# Altium integrated library Texas Instruments Power Management PWM Controller.IntLib: 1227 symbols (part 36 of 49)
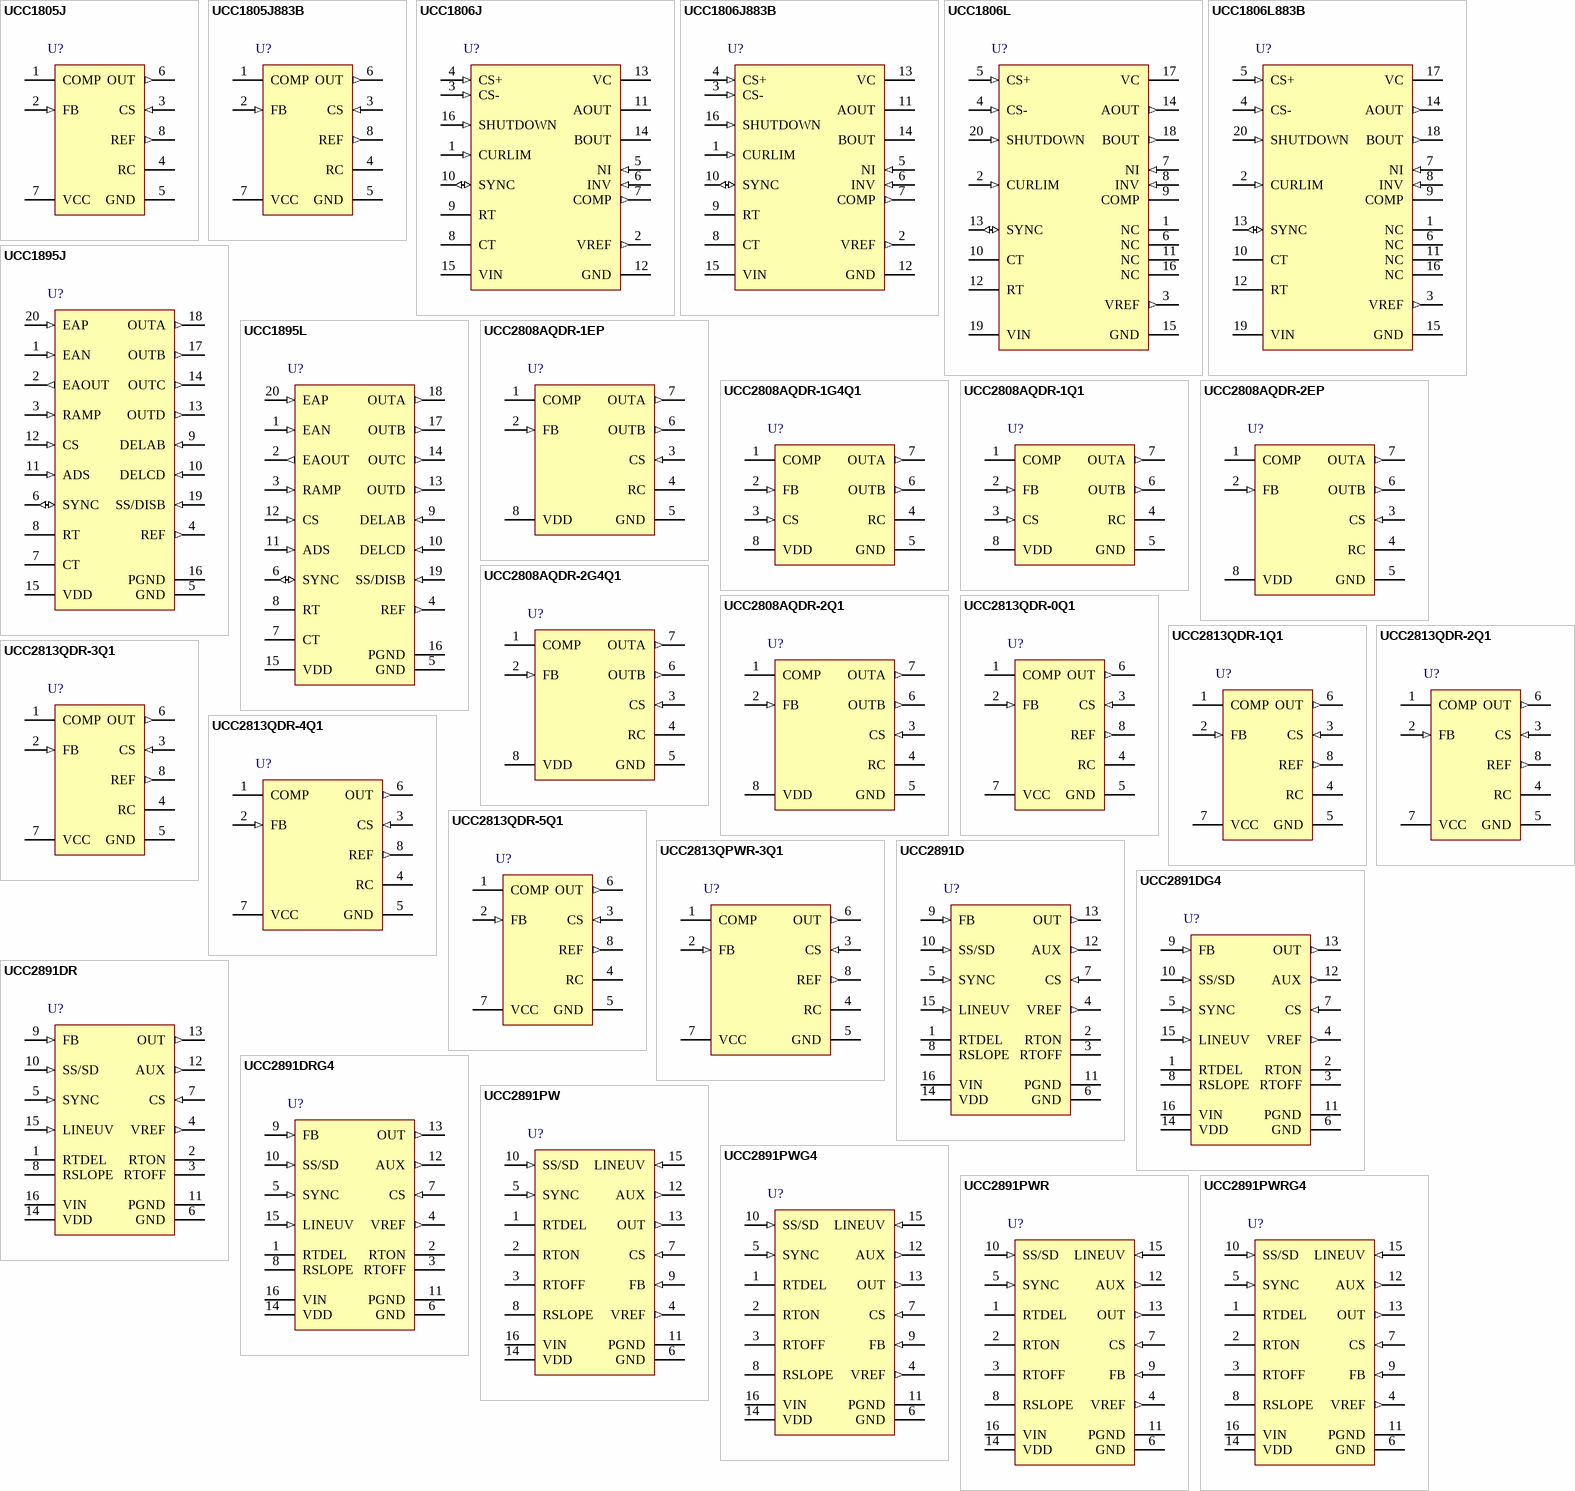
[diagram p78: symbols UCC1805J to UCC2891PWRG4]

## UCC2808AQDR-1Q1
designator U?
Low Power Current Mode Push-Pull PWM with Current Control, 50 % Duty Cycle, -40 to +125 degC, 8-pin SOIC (D), Green (RoHS & no Sb/Br); PartNumber: UCC2808AQDR-1Q1; Manufacturer: Texas Instruments; Duty Cycle(Max)(%): 50; Frequency(Max)(kHz): 1000; Rating: Automotive; Regulated Outputs(#): 2; SubFamily: PWM Controller; UVLO Thresholds On/Off(V): 12.5/8.3; DatasheetVersion: SGLS183A; PackageVersion: revM, Jun-2011; PackageReference: D8; PackageDescription: 8-Pin Plastic Small Outline Integrated Circuit, 4.9 x 3.9 mm, Pitch 1.27 mm Pitch; Supplier 1: Digi-Key; Supplier Part Number 1: 296-17986-2-ND; Supplier 2: Digi-Key; Supplier Part Number 2: 296-17986-1-ND; Supplier 3: Digi-Key; Supplier Part Number 3: 296-17986-6-ND; Supplier 4: Newark; Supplier Part Number 4: 87H4683; Supplier 5: Mouser; Supplier Part Number 5: 595-UCC2808AQDR-1Q1; Control Method: Current; Eco-Plan: Green (RoHS & no Sb/Br); Mounting Technology: Surface Mount; Code_JEDEC: MS-012AA; ComponentLink1Description: Datasheet; ComponentLink1URL: http://www.ti.com/general/docs/lit/getliterature.tsp?genericPartNumber=UCC2808A-1Q1&fileType=pdf
footprint D8_N (SOIC, 8-Leads, Body 4.9x3.9mm, Pitch 1.27mm, IPC Medium Density)
footprint D8_L (SOIC, 8-Leads, Body 4.9x3.9mm, Pitch 1.27mm, IPC High Density)
footprint D8_M (SOIC, 8-Leads, Body 4.9x3.9mm, Pitch 1.27mm, IPC Low Density)
pins: 1 COMP "COMP is the output of the error amplifier and the input of the PWM comparator. The error amplifier in the UCC2808A is a true low-output impedance, 2-MHz operational amplifier. As such, the COMP pin can both source and sink (See Datasheet)", 2 FB (in) "The inverting input to the error amplifier. For best stability, keep FB lead length as short as possible and FB stray capacitance as small as possible.", 3 CS (in) "The input to the PWM, peak current, and overcurrent comparators. The overcurrent comparator is only intended for fault sensing. Exceeding the overcurrent threshold will cause a soft start cycle. An internal MOSFET discharges (See Datasheet)", 4 RC "The oscillator programming pin. The UCC2808A’s oscillator tracks VDD and GND internally, so that variations in power supply rails minimally affect frequency stability. Figure 1 shows the oscillator block diagram.", 5 GND (power) "Reference ground and power ground for all functions. Due to high currents, and high frequency operation of the UCC2808A, a low impedance circuit board ground plane is highly recommended.", 6 OUTB (out) "Alternating high current output stages. Both stages are capable of driving the gate of a power MOSFET. Each stage is capable of 500-mA peak-source current, and 1-A peak-sink current.", 7 OUTA (out) "Alternating high current output stages. Both stages are capable of driving the gate of a power MOSFET. Each stage is capable of 500-mA peak-source current, and 1-A peak-sink current.", 8 VDD (power) "The power input connection for this device. Although quiescent VDD current is very low, total supply current will be higher, depending on OUTA and OUTB current, and the programmed oscillator frequency. Total VDD current is (See Datasheet)"

## UCC2808AQDR-2EP
designator U?
Low Power Current Mode Push-Pull PWM with Current Control, 50 % Duty Cycle, -40 to +125 degC, 8-pin SOIC (D), Green (RoHS & no Sb/Br); PartNumber: UCC2808AQDR-2EP; Manufacturer: Texas Instruments; Duty Cycle(Max)(%): 50; Frequency(Max)(kHz): 1000; Rating: HiRel Enhanced Product; Regulated Outputs(#): 2; SubFamily: PWM Controller; UVLO Thresholds On/Off(V): 4.3/4.1; DatasheetVersion: SGLS187A; PackageVersion: revM, Jun-2011; PackageReference: D8; PackageDescription: 8-Pin Plastic Small Outline Integrated Circuit, 4.9 x 3.9 mm, Pitch 1.27 mm Pitch; Supplier 1: Digi-Key; Supplier Part Number 1: 296-21293-2-ND; Supplier 2: Digi-Key; Supplier Part Number 2: 296-21293-1-ND; Supplier 3: Digi-Key; Supplier Part Number 3: 296-21293-6-ND; Supplier 4: Newark; Supplier Part Number 4: 46M1385; Supplier 5: Mouser; Supplier Part Number 5: 595-UCC2808AQDR-2EP; Control Method: Current; Eco-Plan: Green (RoHS & no Sb/Br); Mounting Technology: Surface Mount; Code_JEDEC: MS-012AA; ComponentLink1Description: Datasheet; ComponentLink1URL: http://www.ti.com/general/docs/lit/getliterature.tsp?genericPartNumber=UCC2808A-2EP&fileType=pdf
footprint D8_N (SOIC, 8-Leads, Body 4.9x3.9mm, Pitch 1.27mm, IPC Medium Density)
footprint D8_L (SOIC, 8-Leads, Body 4.9x3.9mm, Pitch 1.27mm, IPC High Density)
footprint D8_M (SOIC, 8-Leads, Body 4.9x3.9mm, Pitch 1.27mm, IPC Low Density)
pins: 1 COMP "COMP is the output of the error amplifier and the input of the PWM comparator. The error amplifier in the UCC2808A is a true low-output impedance, 2-MHz operational amplifier. As such, the COMP pin can both source and sink (See Datasheet)", 2 FB (in) "The inverting input to the error amplifier. For best stability, keep FB lead length as short as possible and FB stray capacitance as small as possible.", 3 CS (in) "The input to the PWM, peak current, and overcurrent comparators. The overcurrent comparator is only intended for fault sensing. Exceeding the overcurrent threshold will cause a soft start cycle. An internal MOSFET discharges (See Datasheet)", 4 RC "The oscillator programming pin. The UCC2808A's oscillator tracks VDD and GND internally, so that variations in power supply rails minimally affect frequency stability. Figure 1 shows the oscillator block diagram.", 5 GND (power) "Reference ground and power ground for all functions. Due to high currents, and high frequency operation of the UCC2808A, a low impedance circuit board ground plane is highly recommended.", 6 OUTB (out) "Alternating high current output stages. Both stages are capable of driving the gate of a power MOSFET. Each stage is capable of 500-mA peak-source current, and 1-A peak-sink current.", 7 OUTA (out) "Alternating high current output stages. Both stages are capable of driving the gate of a power MOSFET. Each stage is capable of 500-mA peak-source current, and 1-A peak-sink current.", 8 VDD (power) "The power input connection for this device. Although quiescent VDD current is very low, total supply current will be higher, depending on OUTA and OUTB current, and the programmed oscillator frequency. Total VDD current is (See Datasheet)"

## UCC2808AQDR-2G4Q1
designator U?
Low Power Push-Pull PWM with Current Control, 50 % Duty Cycle, -40 to +125 degC, 8-pin SOIC (D), Green (RoHS & no Sb/Br); PartNumber: UCC2808AQDR-2G4Q1; Manufacturer: Texas Instruments; Duty Cycle(Max)(%): 50; Frequency(Max)(kHz): 1000; Rating: Automotive; Regulated Outputs(#): 2; SubFamily: PWM Controller; UVLO Thresholds On/Off(V): 4.3/4.1; DatasheetVersion: SGLS183A; PackageVersion: revM, Jun-2011; PackageReference: D8; PackageDescription: 8-Pin Plastic Small Outline Integrated Circuit, 4.9 x 3.9 mm, Pitch 1.27 mm Pitch; Supplier 1: Digi-Key; Supplier Part Number 1: UCC2808AQDR-2G4Q1-ND; Supplier 2: Mouser; Supplier Part Number 2: 595-UCC2808AQDR2G4Q1; Control Method: Current; Eco-Plan: Green (RoHS & no Sb/Br); Mounting Technology: Surface Mount; Code_JEDEC: MS-012AA; ComponentLink1Description: Datasheet; ComponentLink1URL: http://www.ti.com/general/docs/lit/getliterature.tsp?genericPartNumber=UCC2808A-2Q1&fileType=pdf
footprint D8_N (SOIC, 8-Leads, Body 4.9x3.9mm, Pitch 1.27mm, IPC Medium Density)
footprint D8_L (SOIC, 8-Leads, Body 4.9x3.9mm, Pitch 1.27mm, IPC High Density)
footprint D8_M (SOIC, 8-Leads, Body 4.9x3.9mm, Pitch 1.27mm, IPC Low Density)
pins: 1 COMP "COMP is the output of the error amplifier and the input of the PWM comparator. The error amplifier in the UCC2808A is a true low-output impedance, 2-MHz operational amplifier. As such, the COMP pin can both source and sink (See Datasheet)", 2 FB (in) "The inverting input to the error amplifier. For best stability, keep FB lead length as short as possible and FB stray capacitance as small as possible.", 3 CS (in) "The input to the PWM, peak current, and overcurrent comparators. The overcurrent comparator is only intended for fault sensing. Exceeding the overcurrent threshold will cause a soft start cycle. An internal MOSFET discharges (See Datasheet)", 4 RC "The oscillator programming pin. The UCC2808A’s oscillator tracks VDD and GND internally, so that variations in power supply rails minimally affect frequency stability.", 5 GND (power) "Reference ground and power ground for all functions. Due to high currents, and high frequency operation of the UCC2808A, a low impedance circuit board ground plane is highly recommended.", 6 OUTB (out) "Alternating high current output stages. Both stages are capable of driving the gate of a power MOSFET. Each stage is capable of 500-mA peak-source current, and 1-A peak-sink current.", 7 OUTA (out) "Alternating high current output stages. Both stages are capable of driving the gate of a power MOSFET. Each stage is capable of 500-mA peak-source current, and 1-A peak-sink current.", 8 VDD (power) "The power input connection for this device. Although quiescent VDD current is very low, total supply current will be higher, depending on OUTA and OUTB current, and the programmed oscillator frequency. Total VDD current is (See Datasheet)"

## UCC2808AQDR-2Q1
designator U?
Low Power Push-Pull PWM with Current Control, 50 % Duty Cycle, -40 to +125 degC, 8-pin SOIC (D), Green (RoHS & no Sb/Br); PartNumber: UCC2808AQDR-2Q1; Manufacturer: Texas Instruments; Duty Cycle(Max)(%): 50; Frequency(Max)(kHz): 1000; Rating: Automotive; Regulated Outputs(#): 2; SubFamily: PWM Controller; UVLO Thresholds On/Off(V): 4.3/4.1; DatasheetVersion: SGLS183A; PackageVersion: revM, Jun-2011; PackageReference: D8; PackageDescription: 8-Pin Plastic Small Outline Integrated Circuit, 4.9 x 3.9 mm, Pitch 1.27 mm Pitch; Supplier 1: Digi-Key; Supplier Part Number 1: 296-19037-2-ND; Supplier 2: Digi-Key; Supplier Part Number 2: 296-19037-1-ND; Supplier 3: Newark; Supplier Part Number 3: 87H4684; Supplier 4: Mouser; Supplier Part Number 4: 595-UCC2808AQDR-2Q1; Control Method: Current; Eco-Plan: Green (RoHS & no Sb/Br); Mounting Technology: Surface Mount; Code_JEDEC: MS-012AA; ComponentLink1Description: Datasheet; ComponentLink1URL: http://www.ti.com/general/docs/lit/getliterature.tsp?genericPartNumber=UCC2808A-2Q1&fileType=pdf
footprint D8_N (SOIC, 8-Leads, Body 4.9x3.9mm, Pitch 1.27mm, IPC Medium Density)
footprint D8_L (SOIC, 8-Leads, Body 4.9x3.9mm, Pitch 1.27mm, IPC High Density)
footprint D8_M (SOIC, 8-Leads, Body 4.9x3.9mm, Pitch 1.27mm, IPC Low Density)
pins: 1 COMP "COMP is the output of the error amplifier and the input of the PWM comparator. The error amplifier in the UCC2808A is a true low-output impedance, 2-MHz operational amplifier. As such, the COMP pin can both source and sink (See Datasheet)", 2 FB (in) "The inverting input to the error amplifier. For best stability, keep FB lead length as short as possible and FB stray capacitance as small as possible.", 3 CS (in) "The input to the PWM, peak current, and overcurrent comparators. The overcurrent comparator is only intended for fault sensing. Exceeding the overcurrent threshold will cause a soft start cycle. An internal MOSFET discharges (See Datasheet)", 4 RC "The oscillator programming pin. The UCC2808A’s oscillator tracks VDD and GND internally, so that variations in power supply rails minimally affect frequency stability.", 5 GND (power) "Reference ground and power ground for all functions. Due to high currents, and high frequency operation of the UCC2808A, a low impedance circuit board ground plane is highly recommended.", 6 OUTB (out) "Alternating high current output stages. Both stages are capable of driving the gate of a power MOSFET. Each stage is capable of 500-mA peak-source current, and 1-A peak-sink current.", 7 OUTA (out) "Alternating high current output stages. Both stages are capable of driving the gate of a power MOSFET. Each stage is capable of 500-mA peak-source current, and 1-A peak-sink current.", 8 VDD (power) "The power input connection for this device. Although quiescent VDD current is very low, total supply current will be higher, depending on OUTA and OUTB current, and the programmed oscillator frequency. Total VDD current is (See Datasheet)"

## UCC2813QDR-0Q1
designator U?
Low-Power BICMOS Current-Mode PWM with Current Control, 100 % Duty Cycle, -40 to +125 degC, 8-pin SOIC (D), Green (RoHS & no Sb/Br); PartNumber: UCC2813QDR-0Q1; Manufacturer: Texas Instruments; Duty Cycle(Max)(%): 100; Frequency(Max)(kHz): 1000; Rating: Automotive; Regulated Outputs(#): 1; SubFamily: PWM Controller; Topology: Boost, Flyback, Forward; UVLO Thresholds On/Off(V): 7.2/6.9; DatasheetVersion: SGLS245D; PackageVersion: revM, Jun-2011; PackageReference: D8; PackageDescription: 8-Pin Plastic Small Outline Integrated Circuit, 4.9 x 3.9 mm, Pitch 1.27 mm Pitch; Supplier 1: Digi-Key; Supplier Part Number 1: 296-22537-2-ND; Supplier 2: Digi-Key; Supplier Part Number 2: 296-22537-1-ND; Supplier 3: Digi-Key; Supplier Part Number 3: 296-22537-6-ND; Supplier 4: Newark; Supplier Part Number 4: 44J2623; Supplier 5: Mouser; Supplier Part Number 5: 595-UCC2813QDR-0Q1; Control Method: Current; Eco-Plan: Green (RoHS & no Sb/Br); Mounting Technology: Surface Mount; Code_JEDEC: MS-012AA; ComponentLink1Description: Datasheet; ComponentLink1URL: http://www.ti.com/general/docs/lit/getliterature.tsp?genericPartNumber=UCC2813-0-Q1&fileType=pdf
footprint D8_N (SOIC, 8-Leads, Body 4.9x3.9mm, Pitch 1.27mm, IPC Medium Density)
footprint D8_L (SOIC, 8-Leads, Body 4.9x3.9mm, Pitch 1.27mm, IPC High Density)
footprint D8_M (SOIC, 8-Leads, Body 4.9x3.9mm, Pitch 1.27mm, IPC Low Density)
pins: 1 COMP "COMP is the output of the error amplifier and the input of the PWM comparator.", 2 FB (in) "FB is the inverting input of the error amplifier. For best stability, keep FB lead length as short as possible and FB stray capacitance as small as possible.", 3 CS (in) "CS is the input to the current sense comparators. The UCC2813 family has two different current sense comparators: the PWM comparator and an overcurrent comparator.", 4 RC "RC is the oscillator timing pin. For fixed frequency operation, set timing capacitor charging current by connecting a resistor from REF to RC. Set frequency by connecting timing capacitor from RC to GND. For best perfomance, (See Datasheet)", 5 GND (power) "GND is reference ground and power ground for all functions on this part.", 6 OUT (out) "OUT is the output of a high-current power driver capable of driving the gate of a power MOSFET with peak currents exceeding +/-750 mA. OUT is actively held low when VCC is below the UVLO threshold.", 7 VCC (power) "VCC is the power input connection for this device. In normal operation, VCC is powered through a current-limiting resistor. Although quiescent VCC current is low, total supply current will be higher, depending on OUT current.", 8 REF (out) "REF is the voltage reference for the error amplifier and also for many other functions on the IC. REF is also used as the logic power supply for high-speed switching logic on the IC."

## UCC2813QDR-1Q1
designator U?
Low-Power BICMOS Current-Mode PWM with Current Control, 100 % Duty Cycle, -40 to +125 degC, 8-pin SOIC (D), Green (RoHS & no Sb/Br); PartNumber: UCC2813QDR-1Q1; Manufacturer: Texas Instruments; Duty Cycle(Max)(%): 50; Frequency(Max)(kHz): 1000; Rating: Automotive; Regulated Outputs(#): 1; SubFamily: PWM Controller; Topology: Boost, Flyback, Forward; UVLO Thresholds On/Off(V): 9.4/7.4; DatasheetVersion: SGLS245D; PackageVersion: revM, Jun-2011; PackageReference: D8; PackageDescription: 8-Pin Plastic Small Outline Integrated Circuit, 4.9 x 3.9 mm, Pitch 1.27 mm Pitch; Supplier 1: Digi-Key; Supplier Part Number 1: 296-19428-2-ND; Supplier 2: Digi-Key; Supplier Part Number 2: 296-19428-1-ND; Supplier 3: Digi-Key; Supplier Part Number 3: 296-19428-6-ND; Supplier 4: Newark; Supplier Part Number 4: 44J2624; Supplier 5: Mouser; Supplier Part Number 5: 595-UCC2813QDR-1Q1; Control Method: Current; Eco-Plan: Green (RoHS & no Sb/Br); Mounting Technology: Surface Mount; Code_JEDEC: MS-012AA; ComponentLink1Description: Datasheet; ComponentLink1URL: http://www.ti.com/general/docs/lit/getliterature.tsp?genericPartNumber=UCC2813-1-Q1&fileType=pdf
footprint D8_N (SOIC, 8-Leads, Body 4.9x3.9mm, Pitch 1.27mm, IPC Medium Density)
footprint D8_L (SOIC, 8-Leads, Body 4.9x3.9mm, Pitch 1.27mm, IPC High Density)
footprint D8_M (SOIC, 8-Leads, Body 4.9x3.9mm, Pitch 1.27mm, IPC Low Density)
pins: 1 COMP "COMP is the output of the error amplifier and the input of the PWM comparator.", 2 FB (in) "FB is the inverting input of the error amplifier. For best stability, keep FB lead length as short as possible and FB stray capacitance as small as possible.", 3 CS (in) "CS is the input to the current sense comparators. The UCC2813 family has two different current sense comparators: the PWM comparator and an overcurrent comparator.", 4 RC "RC is the oscillator timing pin. For fixed frequency operation, set timing capacitor charging current by connecting a resistor from REF to RC. Set frequency by connecting timing capacitor from RC to GND. For best perfomance, (See Datasheet)", 5 GND (power) "GND is reference ground and power ground for all functions on this part.", 6 OUT (out) "OUT is the output of a high-current power driver capable of driving the gate of a power MOSFET with peak currents exceeding +/-750 mA. OUT is actively held low when VCC is below the UVLO threshold.", 7 VCC (power) "VCC is the power input connection for this device.", 8 REF (out) "REF is the voltage reference for the error amplifier and also for many other functions on the IC. REF is also used as the logic power supply for high-speed switching logic on the IC."

## UCC2813QDR-2Q1
designator U?
Low-Power BICMOS Current-Mode PWM with Current Control, 100 % Duty Cycle, -40 to +125 degC, 8-pin SOIC (D), Green (RoHS & no Sb/Br); PartNumber: UCC2813QDR-2Q1; Manufacturer: Texas Instruments; Duty Cycle(Max)(%): 100; Frequency(Max)(kHz): 1000; Rating: Automotive; Regulated Outputs(#): 1; SubFamily: PWM Controller; Topology: Boost, Flyback, Forward; UVLO Thresholds On/Off(V): 12.5/8.3; DatasheetVersion: SGLS245D; PackageVersion: revM, Jun-2011; PackageReference: D8; PackageDescription: 8-Pin Plastic Small Outline Integrated Circuit, 4.9 x 3.9 mm, Pitch 1.27 mm Pitch; Supplier 1: Digi-Key; Supplier Part Number 1: 296-23447-2-ND; Supplier 2: Digi-Key; Supplier Part Number 2: 296-23447-1-ND; Supplier 3: Digi-Key; Supplier Part Number 3: 296-23447-6-ND; Supplier 4: Newark; Supplier Part Number 4: 44J2625; Supplier 5: Mouser; Supplier Part Number 5: 595-UCC2813QDR-2Q1; Control Method: Current; Eco-Plan: Green (RoHS & no Sb/Br); Mounting Technology: Surface Mount; Code_JEDEC: MS-012AA; ComponentLink1Description: Datasheet; ComponentLink1URL: http://www.ti.com/general/docs/lit/getliterature.tsp?genericPartNumber=UCC2813-2-Q1&fileType=pdf
footprint D8_N (SOIC, 8-Leads, Body 4.9x3.9mm, Pitch 1.27mm, IPC Medium Density)
footprint D8_L (SOIC, 8-Leads, Body 4.9x3.9mm, Pitch 1.27mm, IPC High Density)
footprint D8_M (SOIC, 8-Leads, Body 4.9x3.9mm, Pitch 1.27mm, IPC Low Density)
pins: 1 COMP "COMP is the output of the error amplifier and the input of the PWM comparator. Unlike other devices, the error amplifier in the UCC2813 family is a true, low output-impedance, 2-MH zoperational amplifier. As such, the COMP (See Datasheet)", 2 FB (in) "FB is the inverting input of the error amplifier. For best stability, keep FB lead length as short as possible and FB stray capacitance as small as possible.", 3 CS (in) "CS is the input to the current sense comparators. The UCC2813 family has two different current sense comparators: the PWM comparator and an overcurrent comparator. The UCC2813 family contains digital current sense filtering, (See Datasheet)", 4 RC "RC is the oscillator timing pin. For fixed frequency operation, set timing capacitor charging current by connecting a resistor from REF to RC. Set frequency by connecting timing capacitor from RC to GND. For best perfomance, (See Datasheet)", 5 GND (power) "GND is reference ground and power ground for all functions on this part.", 6 OUT (out) "OUT is the output of a high-current power driver capable of driving the gate of a power MOSFET with peak currents exceeding +/-750 mA. OUT is actively held low when VCC is below the UVLO threshold. The high-current power (See Datasheet)", 7 VCC (power) "VCC is the power input connection for this device. In normal operation, VCC is powered through a current-limiting resistor. Although quiescent VCC current is low, total supply current will be higher, depending on OUT current.(See Datasheet)", 8 REF (out) "REF is the voltage reference for the error amplifier and also for many other functions on the IC. REF is also used as the logic power supply for high-speed switching logic on the IC. When VCC is greater than 1 V and less (See Datasheet)"

## UCC2813QDR-3Q1
designator U?
Low-Power BICMOS Current-Mode PWM with Current Control, 100 % Duty Cycle, -40 to +125 degC, 8-pin SOIC (D), Green (RoHS & no Sb/Br); PartNumber: UCC2813QDR-3Q1; Manufacturer: Texas Instruments; Duty Cycle(Max)(%): 100; Frequency(Max)(kHz): 1000; Rating: Automotive; Regulated Outputs(#): 1; SubFamily: PWM Controller; Topology: Boost, Flyback, Forward; UVLO Thresholds On/Off(V): 4.1/3.6; DatasheetVersion: SGLS245D; PackageVersion: revM, Jun-2011; PackageReference: D8; PackageDescription: 8-Pin Plastic Small Outline Integrated Circuit, 4.9 x 3.9 mm, Pitch 1.27 mm Pitch; Supplier 1: Digi-Key; Supplier Part Number 1: 296-17879-2-ND; Supplier 2: Digi-Key; Supplier Part Number 2: 296-17879-1-ND; Supplier 3: Digi-Key; Supplier Part Number 3: 296-17879-6-ND; Supplier 4: Newark; Supplier Part Number 4: 44J2626; Supplier 5: Mouser; Supplier Part Number 5: 595-UCC2813QDR-3Q1; Control Method: Current; Eco-Plan: Green (RoHS & no Sb/Br); Mounting Technology: Surface Mount; Code_JEDEC: MS-012AA; ComponentLink1Description: Datasheet; ComponentLink1URL: http://www.ti.com/general/docs/lit/getliterature.tsp?genericPartNumber=UCC2813-3-Q1&fileType=pdf
footprint D8_N (SOIC, 8-Leads, Body 4.9x3.9mm, Pitch 1.27mm, IPC Medium Density)
footprint D8_L (SOIC, 8-Leads, Body 4.9x3.9mm, Pitch 1.27mm, IPC High Density)
footprint D8_M (SOIC, 8-Leads, Body 4.9x3.9mm, Pitch 1.27mm, IPC Low Density)
pins: 1 COMP "COMP is the output of the error amplifier and the input of the PWM comparator.", 2 FB (in) "FB is the inverting input of the error amplifier.", 3 CS (in) "CS is the input to the current sense comparators.", 4 RC "RC is the oscillator timing pin.", 5 GND (power) "GND is reference ground and power ground for all functions on this part.", 6 OUT (out) "OUT is the output of a high-current power driver capable of driving the gate of a power MOSFET with peak currents exceeding +/-750 mA.", 7 VCC (power) "VCC is the power input connection for this device.", 8 REF (out) "REF is the voltage reference for the error amplifier and also for many other functions on the IC. REF is also used as the logic power supply for high-speed switching logic on the IC."

## UCC2813QDR-4Q1
designator U?
Low-Power BICMOS Current-Mode PWM with Current Control, 100 % Duty Cycle, -40 to +125 degC, 8-pin SOIC (D), Green (RoHS & no Sb/Br); PartNumber: UCC2813QDR-4Q1; Manufacturer: Texas Instruments; Duty Cycle(Max)(%): 50; Frequency(Max)(kHz): 1000; Rating: Automotive; Regulated Outputs(#): 1; SubFamily: PWM Controller; Topology: Boost, Flyback, Forward; UVLO Thresholds On/Off(V): 12.5/8.3; DatasheetVersion: SGLS245D; PackageVersion: revM, Jun-2011; PackageReference: D8; PackageDescription: 8-Pin Plastic Small Outline Integrated Circuit, 4.9 x 3.9 mm, Pitch 1.27 mm Pitch; Supplier 1: Digi-Key; Supplier Part Number 1: UCC2813QDR-4Q1-ND; Supplier 2: Newark; Supplier Part Number 2: 44J2627; Supplier 3: Mouser; Supplier Part Number 3: 595-UCC2813QDR-4Q1; Control Method: Current; Eco-Plan: Green (RoHS & no Sb/Br); Mounting Technology: Surface Mount; Code_JEDEC: MS-012AA; ComponentLink1Description: Datasheet; ComponentLink1URL: http://www.ti.com/general/docs/lit/getliterature.tsp?genericPartNumber=UCC2813-4-Q1&fileType=pdf
footprint D8_N (SOIC, 8-Leads, Body 4.9x3.9mm, Pitch 1.27mm, IPC Medium Density)
footprint D8_L (SOIC, 8-Leads, Body 4.9x3.9mm, Pitch 1.27mm, IPC High Density)
footprint D8_M (SOIC, 8-Leads, Body 4.9x3.9mm, Pitch 1.27mm, IPC Low Density)
pins: 1 COMP "COMP is the output of the error amplifier and the input of the PWM comparator. Unlike other devices, the error amplifier in the UCC2813 family is a true, low output-impedance, 2-MHz operational amplifier. As such, the COMP (See Datasheet)", 2 FB (in) "FB is the inverting input of the error amplifier. For best stability, keep FB lead length as short as possible and FB stray capacitance as small as possible.", 3 CS (in) "CS is the input to the current sense comparators. The UCC2813 family has two different current sense comparators: the PWM comparator and an overcurrent comparator. The UCC2813 family contains digital current sense filtering, (See Datasheet)", 4 RC "RC is the oscillator timing pin. For fixed frequency operation, set timing capacitor charging current by connectingwhere frequency is in Hz, resistance is in ohms, and capacitance is in farads. The recommended range of the (See Datasheet)", 5 GND (power) "GND is reference ground and power ground for all functions on this part.", 6 OUT (out) "OUT is the output of a high-current power driver capable of driving the gate of a power MOSFET with peak currents exceeding +/-750 mA. OUT is actively held low when VCC is below the UVLO threshold. The high-current power (See Datasheet)", 7 VCC (power) "VCC is the power input connection for this device. In normal operation, VCC is powered through a current-limiting resistor. Although quiescent VCC current is low, total supply current will be higher, depending on OUT current.(See Datasheet)", 8 REF (out) "REF is the voltage reference for the error amplifier and also for many other functions on the IC. REF is also used as the logic power supply for high-speed switching logic on the IC. When VCC is greater than 1 V and less (See Datasheet)"

## UCC2813QDR-5Q1
designator U?
Low-Power BICMOS Current-Mode PWM with Current Control, 100 % Duty Cycle, -40 to +125 degC, 8-pin SOIC (D), Green (RoHS & no Sb/Br); PartNumber: UCC2813QDR-5Q1; Manufacturer: Texas Instruments; Duty Cycle(Max)(%): 50; Frequency(Max)(kHz): 1000; Rating: Automotive; Regulated Outputs(#): 1; SubFamily: PWM Controller; Topology: Boost, Flyback, Forward; UVLO Thresholds On/Off(V): 4.1/3.6; DatasheetVersion: SGLS245D; PackageVersion: revM, Jun-2011; PackageReference: D8; PackageDescription: 8-Pin Plastic Small Outline Integrated Circuit, 4.9 x 3.9 mm, Pitch 1.27 mm Pitch; Supplier 1: Digi-Key; Supplier Part Number 1: 296-23559-2-ND; Supplier 2: Digi-Key; Supplier Part Number 2: 296-23559-1-ND; Supplier 3: Digi-Key; Supplier Part Number 3: 296-23559-6-ND; Supplier 4: Newark; Supplier Part Number 4: 44J2628; Supplier 5: Mouser; Supplier Part Number 5: 595-UCC2813QDR-5Q1; Control Method: Current; Eco-Plan: Green (RoHS & no Sb/Br); Mounting Technology: Surface Mount; Code_JEDEC: MS-012AA; ComponentLink1Description: Datasheet; ComponentLink1URL: http://www.ti.com/general/docs/lit/getliterature.tsp?genericPartNumber=UCC2813-5-Q1&fileType=pdf
footprint D8_N (SOIC, 8-Leads, Body 4.9x3.9mm, Pitch 1.27mm, IPC Medium Density)
footprint D8_L (SOIC, 8-Leads, Body 4.9x3.9mm, Pitch 1.27mm, IPC High Density)
footprint D8_M (SOIC, 8-Leads, Body 4.9x3.9mm, Pitch 1.27mm, IPC Low Density)
pins: 1 COMP "COMP is the output of the error amplifier and the input of the PWM comparator. Unlike other devices, the error amplifier in the UCC2813 family is a true, low output-impedance, 2-MHz operational amplifier. As such, the COMP (See Datasheet)", 2 FB (in) "FB is the inverting input of the error amplifier. For best stability, keep FB lead length as short as possible and FB stray capacitance as small as possible.", 3 CS (in) "?CS is the input to the current sense comparators. The UCC2813 family has two different current sense comparators: the PWM comparator and an overcurrent comparator. The UCC2813 family contains digital current sense (See Datasheet)", 4 RC "RC is the oscillator timing pin. For fixed frequency operation, set timing capacitor charging current by connecting a resistor from REF to RC. Set frequency by connecting timing capacitor from RC to GND. For best perfomance, (See Datasheet)", 5 GND (power) "GND is reference ground and power ground for all functions on this part.", 6 OUT (out) "OUT is the output of a high-current power driver capable of driving the gate of a power MOSFET with peak currents exceeding 750 mA. OUT is actively held low when VCC is below the UVLO threshold. The high-current power (See Datasheet)", 7 VCC (power) "VCC is the power input connection for this device. In normal operation, VCC is powered through a current-limiting resistor. Although quiescent VCC current is low, total supply current will be higher, depending on OUT current.(See Datasheet)", 8 REF (out) "REF is the voltage reference for the error amplifier and also for many other functions on the IC. REF is also used as the logic power supply for high-speed switching logic on the IC. When VCC is greater than 1 V and less (See Datasheet)"

## UCC2813QPWR-3Q1
designator U?
Low-Power BICMOS Current-Mode PWM with Current Control, 100 % Duty Cycle, -40 to +125 degC, 8-pin TSSOP (PW), Green (RoHS & no Sb/Br); PartNumber: UCC2813QPWR-3Q1; Manufacturer: Texas Instruments; Duty Cycle(Max)(%): 100; Frequency(Max)(kHz): 1000; Rating: Automotive; Regulated Outputs(#): 1; SubFamily: PWM Controller; Topology: Boost, Flyback, Forward; UVLO Thresholds On/Off(V): 4.1/3.6; DatasheetVersion: SGLS245D; PackageVersion: revG, Feb-2011; PackageReference: PW8; PackageDescription: 8-Pin Plastic Thin Small Outline Package 3 x 4.4 mm Body ,0.65 mm Pitch; Supplier 1: Digi-Key; Supplier Part Number 1: 296-22002-2-ND; Supplier 2: Digi-Key; Supplier Part Number 2: 296-22002-1-ND; Supplier 3: Digi-Key; Supplier Part Number 3: 296-22002-6-ND; Supplier 4: Newark; Supplier Part Number 4: 99K4469; Supplier 5: Mouser; Supplier Part Number 5: 595-UCC2813QPWR-3Q1; Control Method: Current; Eco-Plan: Green (RoHS & no Sb/Br); Mounting Technology: Surface Mount; Code_JEDEC: MO-153; ComponentLink1Description: Datasheet; ComponentLink1URL: http://www.ti.com/general/docs/lit/getliterature.tsp?genericPartNumber=UCC2813-3-Q1&fileType=pdf; ComponentLink2Description: URL Link1; ComponentLink2URL: Samples URL:http://www.ti.com/lit/ds/symlink/ucc2813-3-q1.pdf
footprint PW8_N (TSOP, 8-Leads, Body 3x4.4mm, Pitch 0.65mm, IPC Medium Density)
footprint PW8_L (TSOP, 8-Leads, Body 3x4.4mm, Pitch 0.65mm, IPC High Density)
footprint PW8_M (TSOP, 8-Leads, Body 3x4.4mm, Pitch 0.65mm, IPC Low Density)
pins: 1 COMP "COMP is the output of the error amplifier and the input of the PWM comparator. Unlike other devices, the error amplifier in the UCC2813 family is a true, low output-impedance, 2-MHz operational amplifier. As such, the COMP (See Datasheet)", 2 FB (in) "FB is the inverting input of the error amplifier. For best stability, keep FB lead length as short as possible and FB stray capacitance as small as possible.", 3 CS (in) "CS  is the input to the current sense comparators. The UCC2813 family has two different current sense comparators: the PWM comparator and an overcurrent comparator. The UCC2813 family contains digital current sense (See Datasheet)", 4 RC "RC  is the oscillator timing pin. For fixed frequency operation, set timing capacitor charging current by connecting a resistor from REF to RC. Set frequency by connecting timing capacitor from RC to GND. For best (See Datasheet)", 5 GND (power) "GND is reference ground and power ground for all functions on this part.", 6 OUT (out) "OUT is the output of a high-current power driver capable of driving the gate of a power MOSFET with peak currents exceeding + / - 750 mA. OUT is actively held low when VCC is below the UVLO threshold. The high-current power (See Datasheet)", 7 VCC (power) "VCC is the power input connection for this device. In normal operation, VCC is powered through a current-limiting resistor. Although quiescent VCC current is low, total supply current will be higher, depending on OUT current.(See Datasheet)", 8 REF (out) "REF is the voltage reference for the error amplifier and also for many other functions on the IC. REF is also used as the logic power supply for high-speed switching logic on the IC. When VCC is greater than 1 V and less (See Datasheet)"

## UCC2891D
designator U?
Current-Mode Active Clamp PWM Controller, -40 to +85 degC, 16-pin SOIC (D), Green (RoHS & no Sb/Br); PartNumber: UCC2891D; Manufacturer: Texas Instruments; Frequency(Max)(kHz): 1000; Input Line Monitor: TRUE; Rating: Catalog; Regulated Outputs(#): 1; Topology: Flyback, Forward; UVLO Thresholds On/Off(V): 13.0/8.0; DatasheetVersion: SLUS542F; PackageVersion: revM, Jun-2011; PackageReference: D16; PackageDescription: 16-Pin Plastic Small Outline Integrated Circuit, 9.9 x 3.9 mm, Pitch 1.27 mm Pitch; Supplier 1: Digi-Key; Supplier Part Number 1: 296-15883-5-ND; Supplier 2: Farnell; Supplier Part Number 2: 8462933; Supplier 3: Newark; Supplier Part Number 3: 38K9154; Supplier 4: Newark; Supplier Part Number 4: 87H4696; Supplier 5: Mouser; Supplier Part Number 5: 595-UCC2891D; Control Method: Current; Eco-Plan: Green (RoHS & no Sb/Br); SubFamily: PWM Controller; Mounting Technology: Surface Mount; Code_JEDEC: MS-012AC; ComponentLink1Description: Datasheet; ComponentLink1URL: http://www.ti.com/general/docs/lit/getliterature.tsp?genericPartNumber=UCC2891&fileType=pdf
footprint D16_N (SOIC, 16-Leads, Body 9.9x3.9mm, Pitch 1.27mm, IPC Medium Density)
footprint D16_L (SOIC, 16-Leads, Body 9.9x3.9mm, Pitch 1.27mm, IPC High Density)
footprint D16_M (SOIC, 16-Leads, Body 9.9x3.9mm, Pitch 1.27mm, IPC Low Density)
pins: 1 RTDEL "A resistor from this pin to GND programs the turn-on delay of the two gate drive outputs to accommodate the resonant transitions of the active clamp power converter.", 2 RTON "A resistor connected from this pin to GND programs an internal current source that charges the internal timing capacitor", 3 RTOFF "A resistor connected from this pin to GND programs an internal current source that discharges the internal timing capacitor.", 4 VREF (out) "This is the 5-V reference voltage that can be utilized for an external load of up to 5 mA. Since this reference provides the supply rail for internal logic, it should be bypassed to AGND as close as possible to the device. (See Datasheet)", 5 SYNC (in) "The SYNC pin serves as a unidirectional synchronization input for the internal oscillator. The synchronization function is implemented such that the user programmable maximum duty cycle (set by RTON and RTOFF) remains (See Datasheet)", 6 GND (power) "This pin serves as the fundamental analog ground for the PWM control circuitry. This pin should be connected to PGND directly at the device.", 7 CS (in) "This pin is used to sense the peak current utilized for current mode control and for current limiting functions. The peak signal which can be applied to this pin before pulse-by-pulse current limiting activates is (See Datasheet)", 8 RSLOPE "A resistor connected from this pin to GND programs an internal current source that sets the slope compensation ramp for the current mode control circuitry.", 9 FB (in) "This pin is used to bring the error signal from an external optocoupler or error amplifier into the PWM control circuitry. Often, there is a resistor tied from FB to VREF, and an optocoupler is used to pull the control pin (See Datasheet)", 10 SS/SD (in) "A capacitor from SS/SD to ground is charged by an internal current source of IRTON to program the soft-start interval for the controller. During a fault condition this capacitor is discharged by a current source equal to (See Datasheet)", 11 PGND (power) "The PGND should serve as the current return for the high-current output drivers OUT and AUX. Ideally, the current path from the outputs to the switching devices, and back would be as short as possible, and enclose a minimal (See Datasheet)", 12 AUX (out) "This output drives the auxiliary clamp MOSFET which is turned on when the main PWM switching device is turned off. The AUX pin can directly drive the auxiliary switch with 2-A source turn-on current and 2-A sink turn-off (See Datasheet)", 13 OUT (out) "This output pin drives the main PWM switching element MOSFET in an active clamp controller. It can directly drive an N-channel device with 2-A source turn-on current and 2-A sink turn-off current. A 10?k ohm resistor is (See Datasheet)", 14 VDD (power) "This is the power supply for the device. There should be a 1-μF capacitor directly from VDD to PGND. The capacitor value should be minimum 10 times greater than that on VREF. PGND and GND should be connected externally and (See Datasheet)", 15 LINEUV (in) "This pin provides a means to accurately enable/disable the power converter stage by monitoring the bulk input voltage or another parameter. When the circuit initially starts (or restarts from a disabled condition), a rising (See Datasheet)", 16 VIN (power) "For the UCC2891, this pin is connected to the input power rail directly. Inside the device, a high-voltage start-up device is utilized to provide the start-up current for the controller until a bootstrap type bias rail (See Datasheet)"

## UCC2891DG4
designator U?
Current-Mode Active Clamp PWM Controller, -40 to +85 degC, 16-pin SOIC (D), Green (RoHS & no Sb/Br); PartNumber: UCC2891DG4; Manufacturer: Texas Instruments; Frequency(Max)(kHz): 1000; Input Line Monitor: TRUE; Rating: Catalog; Regulated Outputs(#): 1; Topology: Flyback, Forward; UVLO Thresholds On/Off(V): 13.0/8.0; DatasheetVersion: SLUS542F; PackageVersion: revM, Jun-2011; PackageReference: D16; PackageDescription: 16-Pin Plastic Small Outline Integrated Circuit, 9.9 x 3.9 mm, Pitch 1.27 mm Pitch; Supplier 1: Digi-Key; Supplier Part Number 1: UCC2891DG4-ND; Supplier 2: Newark; Supplier Part Number 2: 58K7051; Supplier 3: Mouser; Supplier Part Number 3: 595-UCC2891DG4; Control Method: Current; Eco-Plan: Green (RoHS & no Sb/Br); SubFamily: PWM Controller; Mounting Technology: Surface Mount; Code_JEDEC: MS-012AC; ComponentLink1Description: Datasheet; ComponentLink1URL: http://www.ti.com/general/docs/lit/getliterature.tsp?genericPartNumber=UCC2891&fileType=pdf
footprint D16_N (SOIC, 16-Leads, Body 9.9x3.9mm, Pitch 1.27mm, IPC Medium Density)
footprint D16_L (SOIC, 16-Leads, Body 9.9x3.9mm, Pitch 1.27mm, IPC High Density)
footprint D16_M (SOIC, 16-Leads, Body 9.9x3.9mm, Pitch 1.27mm, IPC Low Density)
pins: 1 RTDEL "A resistor from this pin to GND programs the turn-on delay of the two gate drive outputs to accommodate the resonant transitions of the active clamp power converter.", 2 RTON "A resistor connected from this pin to GND programs an internal current source that charges the internal timing capacitor", 3 RTOFF "A resistor connected from this pin to GND programs an internal current source that discharges the internal timing capacitor.", 4 VREF (out) "This is the 5-V reference voltage that can be utilized for an external load of up to 5 mA. Since this reference provides the supply rail for internal logic, it should be bypassed to AGND as close as possible to the device. (See Datasheet)", 5 SYNC (in) "The SYNC pin serves as a unidirectional synchronization input for the internal oscillator. The synchronization function is implemented such that the user programmable maximum duty cycle (set by RTON and RTOFF) remains (See Datasheet)", 6 GND (power) "This pin serves as the fundamental analog ground for the PWM control circuitry. This pin should be connected to PGND directly at the device.", 7 CS (in) "This pin is used to sense the peak current utilized for current mode control and for current limiting functions. The peak signal which can be applied to this pin before pulse-by-pulse current limiting activates is (See Datasheet)", 8 RSLOPE "A resistor connected from this pin to GND programs an internal current source that sets the slope compensation ramp for the current mode control circuitry.", 9 FB (in) "This pin is used to bring the error signal from an external optocoupler or error amplifier into the PWM control circuitry. Often, there is a resistor tied from FB to VREF, and an optocoupler is used to pull the control pin (See Datasheet)", 10 SS/SD (in) "A capacitor from SS/SD to ground is charged by an internal current source of IRTON to program the soft-start interval for the controller. During a fault condition this capacitor is discharged by a current source equal to (See Datasheet)", 11 PGND (power) "The PGND should serve as the current return for the high-current output drivers OUT and AUX. Ideally, the current path from the outputs to the switching devices, and back would be as short as possible, and enclose a minimal (See Datasheet)", 12 AUX (out) "This output drives the auxiliary clamp MOSFET which is turned on when the main PWM switching device is turned off. The AUX pin can directly drive the auxiliary switch with 2-A source turn-on current and 2-A sink turn-off (See Datasheet)", 13 OUT (out) "This output pin drives the main PWM switching element MOSFET in an active clamp controller. It can directly drive an N-channel device with 2-A source turn-on current and 2-A sink turn-off current. A 10?k ohm resistor is (See Datasheet)", 14 VDD (power) "This is the power supply for the device. There should be a 1-μF capacitor directly from VDD to PGND. The capacitor value should be minimum 10 times greater than that on VREF. PGND and GND should be connected externally and (See Datasheet)", 15 LINEUV (in) "This pin provides a means to accurately enable/disable the power converter stage by monitoring the bulk input voltage or another parameter. When the circuit initially starts (or restarts from a disabled condition), a rising (See Datasheet)", 16 VIN (power) "For the UCC2891, this pin is connected to the input power rail directly. Inside the device, a high-voltage start-up device is utilized to provide the start-up current for the controller until a bootstrap type bias rail (See Datasheet)"

## UCC2891DR
designator U?
Current-Mode Active Clamp PWM Controller, -40 to +85 degC, 16-pin SOIC (D), Green (RoHS & no Sb/Br); PartNumber: UCC2891DR; Manufacturer: Texas Instruments; Frequency(Max)(kHz): 1000; Input Line Monitor: TRUE; Rating: Catalog; Regulated Outputs(#): 1; Topology: Flyback, Forward; UVLO Thresholds On/Off(V): 13.0/8.0; DatasheetVersion: SLUS542F; PackageVersion: revM, Jun-2011; PackageReference: D16; PackageDescription: 16-Pin Plastic Small Outline Integrated Circuit, 9.9 x 3.9 mm, Pitch 1.27 mm Pitch; Supplier 1: Digi-Key; Supplier Part Number 1: UCC2891DR-ND; Supplier 2: Newark; Supplier Part Number 2: 87H4697; Supplier 3: Mouser; Supplier Part Number 3: 595-UCC2891DR; Control Method: Current; Eco-Plan: Green (RoHS & no Sb/Br); SubFamily: PWM Controller; Mounting Technology: Surface Mount; Code_JEDEC: MS-012AC; ComponentLink1Description: Datasheet; ComponentLink1URL: http://www.ti.com/general/docs/lit/getliterature.tsp?genericPartNumber=UCC2891&fileType=pdf
footprint D16_N (SOIC, 16-Leads, Body 9.9x3.9mm, Pitch 1.27mm, IPC Medium Density)
footprint D16_L (SOIC, 16-Leads, Body 9.9x3.9mm, Pitch 1.27mm, IPC High Density)
footprint D16_M (SOIC, 16-Leads, Body 9.9x3.9mm, Pitch 1.27mm, IPC Low Density)
pins: 1 RTDEL "A resistor from this pin to GND programs the turn-on delay of the two gate drive outputs to accommodate the resonant transitions of the active clamp power converter.", 2 RTON "A resistor connected from this pin to GND programs an internal current source that charges the internal timing capacitor", 3 RTOFF "A resistor connected from this pin to GND programs an internal current source that discharges the internal timing capacitor.", 4 VREF (out) "This is the 5-V reference voltage that can be utilized for an external load of up to 5 mA. Since this reference provides the supply rail for internal logic, it should be bypassed to AGND as close as possible to the device. (See Datasheet)", 5 SYNC (in) "The SYNC pin serves as a unidirectional synchronization input for the internal oscillator. The synchronization function is implemented such that the user programmable maximum duty cycle (set by RTON and RTOFF) remains (See Datasheet)", 6 GND (power) "This pin serves as the fundamental analog ground for the PWM control circuitry. This pin should be connected to PGND directly at the device.", 7 CS (in) "This pin is used to sense the peak current utilized for current mode control and for current limiting functions. The peak signal which can be applied to this pin before pulse-by-pulse current limiting activates is (See Datasheet)", 8 RSLOPE "A resistor connected from this pin to GND programs an internal current source that sets the slope compensation ramp for the current mode control circuitry.", 9 FB (in) "This pin is used to bring the error signal from an external optocoupler or error amplifier into the PWM control circuitry. Often, there is a resistor tied from FB to VREF, and an optocoupler is used to pull the control pin (See Datasheet)", 10 SS/SD (in) "A capacitor from SS/SD to ground is charged by an internal current source of IRTON to program the soft-start interval for the controller. During a fault condition this capacitor is discharged by a current source equal to (See Datasheet)", 11 PGND (power) "The PGND should serve as the current return for the high-current output drivers OUT and AUX. Ideally, the current path from the outputs to the switching devices, and back would be as short as possible, and enclose a minimal (See Datasheet)", 12 AUX (out) "This output drives the auxiliary clamp MOSFET which is turned on when the main PWM switching device is turned off. The AUX pin can directly drive the auxiliary switch with 2-A source turn-on current and 2-A sink turn-off (See Datasheet)", 13 OUT (out) "This output pin drives the main PWM switching element MOSFET in an active clamp controller. It can directly drive an N-channel device with 2-A source turn-on current and 2-A sink turn-off current. A 10?k ohm resistor is (See Datasheet)", 14 VDD (power) "This is the power supply for the device. There should be a 1-μF capacitor directly from VDD to PGND. The capacitor value should be minimum 10 times greater than that on VREF. PGND and GND should be connected externally and (See Datasheet)", 15 LINEUV (in) "This pin provides a means to accurately enable/disable the power converter stage by monitoring the bulk input voltage or another parameter. When the circuit initially starts (or restarts from a disabled condition), a rising (See Datasheet)", 16 VIN (power) "For the UCC2891, this pin is connected to the input power rail directly. Inside the device, a high-voltage start-up device is utilized to provide the start-up current for the controller until a bootstrap type bias rail (See Datasheet)"